# EAGLE library part LPC824M201JHI33 (library mylib)
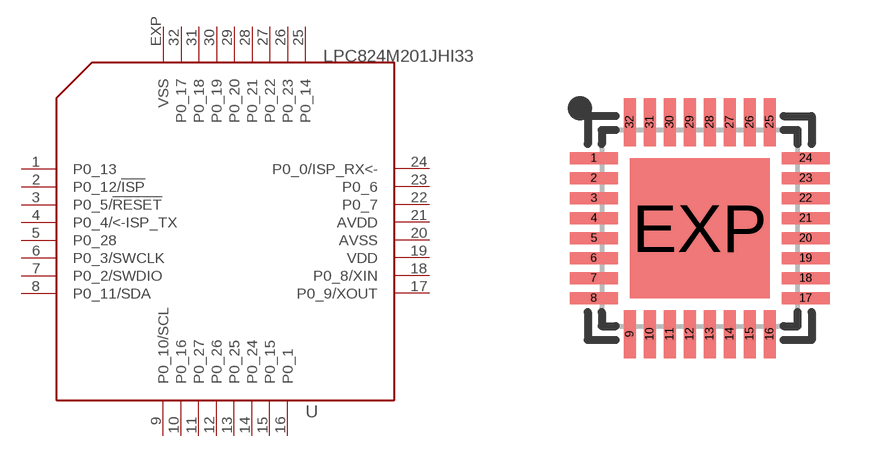
[diagram p100: symbol with the pads of HVQFN33; footprint HVQFN33]

Designator prefix U

## LPC824M201JHI33  [HVQFN33]
1  P0_13
2  P0_12/!ISP!
3  P0_5/!RESET!
4  P0_4/<-ISP_TX
5  P0_28
6  P0_3/SWCLK
7  P0_2/SWDIO
8  P0_11/SDA
9  P0_10/SCL
10  P0_16
11  P0_27
12  P0_26
13  P0_25
14  P0_24
15  P0_15
16  P0_1
17  P0_9/XOUT
18  P0_8/XIN
19  VDD  pwr
20  AVSS  pwr
21  AVDD  pwr
22  P0_7
23  P0_6
24  P0_0/ISP_RX<-
25  P0_14
26  P0_23
27  P0_22
28  P0_21
29  P0_20
30  P0_19
31  P0_18
32  P0_17
EXP  VSS  pwr

## Footprint HVQFN33 (pad centres in mm)
HVQFN32 (SOT617-3) 5 x 5 x .85 mm, Pitch 0.5mm Source: http://www.semiconductors.philips.com/acrobat_download/datasheets/TDA9885_TDA9886_2.pdf
smd 1.2 x 0.3: 1 -2.65,1.75; 2 -2.65,1.25; 3 -2.65,0.75; 4 -2.65,0.25; 5 -2.65,-0.25; 6 -2.65,-0.75; 7 -2.65,-1.25; 8 -2.65,-1.75; 17 2.65,-1.75; 18 2.65,-1.25; 19 2.65,-0.75; 20 2.65,-0.25; 21 2.65,0.25; 22 2.65,0.75; 23 2.65,1.25; 24 2.65,1.75
smd 0.3 x 1.2: 9 -1.75,-2.65; 10 -1.25,-2.65; 11 -0.75,-2.65; 12 -0.25,-2.65; 13 0.25,-2.65; 14 0.75,-2.65; 15 1.25,-2.65; 16 1.75,-2.65; 25 1.75,2.65; 26 1.25,2.65; 27 0.75,2.65; 28 0.25,2.65; 29 -0.25,2.65; 30 -0.75,2.65; 31 -1.25,2.65; 32 -1.75,2.65
smd 3.5 x 3.5: EXP 0,0